# EAGLE library part TMP116 (library texas)
SENSOR DIGITAL -55C-125C 6WSON
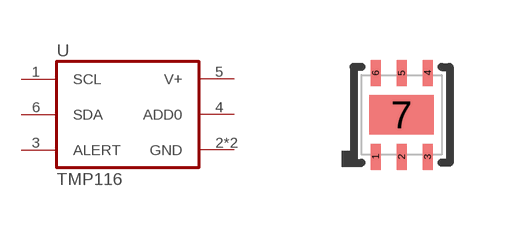
[diagram p127: symbol with the pads of WDFN-6; footprint WDFN-6]

Designator prefix U

## TMP116DRV  [WDFN-6]
1  SCL
2  GND  pwr
3  ALERT  out
4  ADD0  pas
5  V+  pwr
6  SDA
7  GND  pwr

## Footprint WDFN-6 (pad centres in mm)
WDFN-6 6-WSON Exposed Pad (2x2)
smd 0.25 x 0.65: 1 -0.65,-1.05; 2 0,-1.05; 3 0.65,-1.05; 4 0.65,1.05; 5 0,1.05; 6 -0.65,1.05
smd 1.6 x 0.991: 7 0,0